# Altium integrated library SM09B-GHS-TB_LF__SN_.IntLib: 1 symbol
Pins are listed as number, name and electrical type; pins without a type are passive.

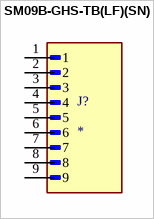
[diagram p0: symbol SM09B-GHS-TB(LF)(SN)]

## SM09B-GHS-TB(LF)(SN)
designator J?
PLUS LOURD, 1,25 MM, 9 DIRECTIONS, SMT, 90 DEGRÃ‰S ; Hauteur : 1,25 mm ; Type de connecteur : Fil-Ã -carte ; Note actuelle : 1A ; TempÃ©rature maximale de fonctionnement : 85Â°C ; Taille maximale des fils AWG : 26AWG ; TempÃ©rature minimale de fonctionnem; MF: JST; MP: SM09B-GHS-TB (LF)(SN); SnapEDA_Link: https://www.snapeda.com/parts/SM09B-GHS-TB%20(LF)(SN)/JST/view-part/?ref=snap; Package: None; Value: *; Check_prices: https://www.snapeda.com/parts/SM09B-GHS-TB%20(LF)(SN)/JST/view-part/?ref=eda
footprint JST_SM09B-GHS-TB(LF)(SN)
pins: 1, 2, 3, 4, 5, 6, 7, 8, 9